# EAGLE library part ADUM5000 (library analog-devices)
ADuM5000 edit this description Auto generated by make-symbol-device-package-bsdl.ulp Rev. 44 Source: ADuM5000.txt
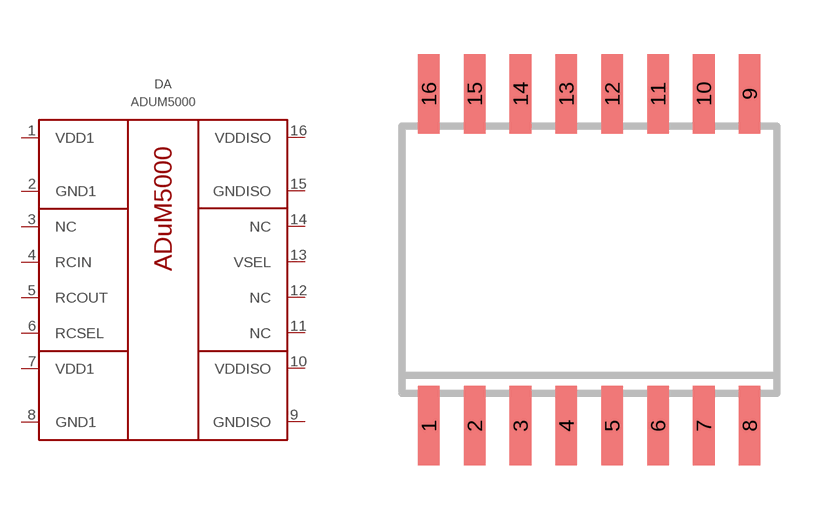
[diagram p0: symbol with the pads of SO16W; footprint SO16W]

Designator prefix DA

## ADUM5000ARWZ  [SO16W]
1  VDD1  pwr
2  GND1  pwr
3  NC  nc
4  RCIN  in
5  RCOUT  out
6  RCSEL  in
7  VDD1  pwr
8  GND1  pwr
9  GNDISO  pwr
10  VDDISO  pwr
11  NC  nc
12  NC  nc
13  VSEL  pwr
14  NC  nc
15  GNDISO  pwr
16  VDDISO  pwr

## Footprint SO16W (pad centres in mm)
SMALL OUTLINE INTEGRATED CIRCUIT wide body 7.5 mm/JEDEC MS-013AA
smd 0.6 x 2.2: 1 -4.445,-4.6; 2 -3.175,-4.6; 3 -1.905,-4.6; 4 -0.635,-4.6; 5 0.635,-4.6; 6 1.905,-4.6; 7 3.175,-4.6; 8 4.445,-4.6; 9 4.445,4.6; 10 3.175,4.6; 11 1.905,4.6; 12 0.635,4.6; 13 -0.635,4.6; 14 -1.905,4.6; 15 -3.175,4.6; 16 -4.445,4.6